# EAGLE library part RXM-GPS-RM-T (library RXM-GPS-RM-T)
RF RCVR GPS 1575.42MHZ MODULE Source: Datasheet <https://datasheet.datasheetarchive.com/originals/distributors/Datasheets-DGA1/159687.pdf>
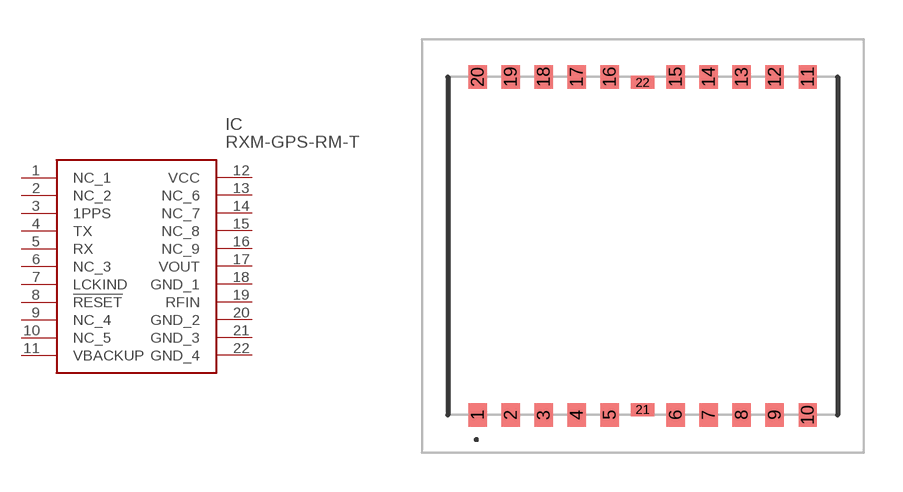
[diagram p0: symbol with the pads of RXMGPSRMT; footprint RXMGPSRMT]

Designator prefix IC

## RXM-GPS-RM-T (Description: RF RCVR GPS 1575.42MHZ MODULE; Height: 2.2mm; Manufacturer_Name: Linx Technologies; Manufacturer_Part_Number: RXM-GPS-RM-T; Mouser_Part_Number: 712-RXM-GPS-RM-T; Mouser_Price-Stock: https://www.mouser.co.uk/ProductDetail/Linx-Technologies/RXM-GPS-RM-T?qs=S4ILP0tmc7SEXHa3NpZsMQ%3D%3D)  [RXMGPSRMT]
1  NC_1
2  NC_2
3  1PPS
4  TX
5  RX
6  NC_3
7  LCKIND
8  !RESET
9  NC_4
10  NC_5
11  VBACKUP
12  VCC
13  NC_6
14  NC_7
15  NC_8
16  NC_9
17  VOUT
18  GND_1
19  RFIN
20  GND_2
21  GND_3
22  GND_4

## Footprint RXMGPSRMT (pad centres in mm)
RXM-GPS-RM-T-1
smd 0.7 x 0.92: 1 -6.35,-6.5; 2 -5.08,-6.5; 3 -3.81,-6.5; 4 -2.54,-6.5; 5 -1.27,-6.5; 6 1.27,-6.5; 7 2.54,-6.5; 8 3.81,-6.5; 9 5.08,-6.5; 10 6.35,-6.5; 11 6.35,6.5; 12 5.08,6.5; 13 3.81,6.5; 14 2.54,6.5; 15 1.27,6.5; 16 -1.27,6.5; 17 -2.54,6.5; 18 -3.81,6.5; 19 -5.08,6.5; 20 -6.35,6.5
smd 0.92 x 0.5: 21 0,-6.29; 22 0,6.29